# EAGLE library part S14P (library con-amp-mt)
AMP MT CONNECTOR
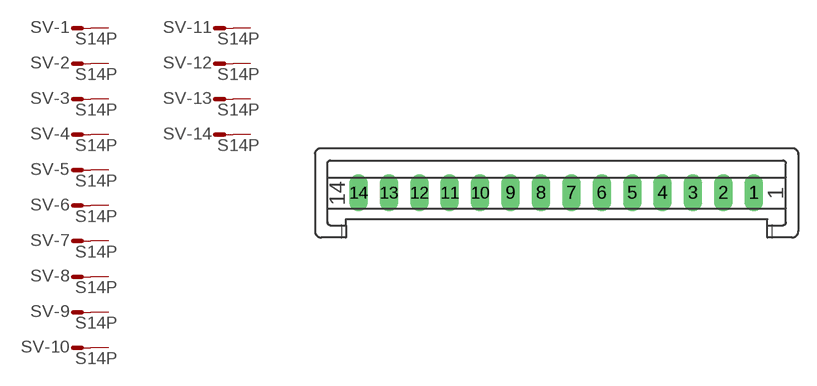
[diagram p8: symbol with the pads of S14P; footprint S14P]

Designator prefix SV; gates -1=M -2=M -3=M -4=M -5=M -6=M -7=M -8=M -9=M -10=M -11=M -12=M -13=M -14=M

## S14P (OC_FARNELL: unknown; OC_NEWARK: unknown)  [S14P]
1  -1:S  pas
2  -2:S  pas
3  -3:S  pas
4  -4:S  pas
5  -5:S  pas
6  -6:S  pas
7  -7:S  pas
8  -8:S  pas
9  -9:S  pas
10  -10:S  pas
11  -11:S  pas
12  -12:S  pas
13  -13:S  pas
14  -14:S  pas

## Footprint S14P (pad centres in mm)
AMP MT CONNECTOR
drill 1.016 long: 1 16.25,0; 2 13.75,0; 3 11.25,0; 4 8.75,0; 5 6.25,0; 6 3.75,0; 7 1.25,0; 8 -1.25,0; 9 -3.75,0; 10 -6.25,0; 11 -8.75,0; 12 -11.25,0; 13 -13.75,0; 14 -16.25,0